# Altium footprint library C0603C101J5HACAUTO.PcbLib: 1 footprints
Each footprint in its own frame and in the unit in brackets; x right, y up, seen from the top. Pads: shape width x height; smd on the part's side, far side on the other; paste and mask are expansions set on the pad; w line width, h text height; cw(c..) or ccw(c..) is an arc to the next point about the centre after c.
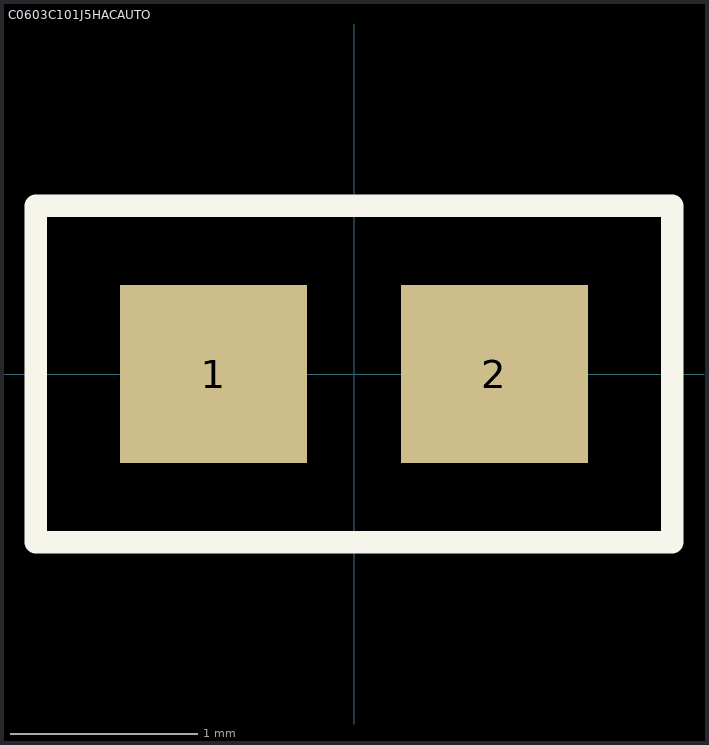
[diagram p0: the footprint, top view; thin cyan lines are the x and y axes]

## C0603C101J5HACAUTO [mm] "Capacitor Cerámico SMD 0603, 50V, +/-5%, C0G"
pads (2):
  rect 1x0.95 smd: 1(-0.75,0) 2(0.75,0)
Top Overlay:
  lines w0.12: -1.7,-0.9 -1.7,0.9 1.7,0.9 1.7,-0.9 -1.7,-0.9